# EAGLE library part LAIRD-BL600 (library GClueBT)
Laird BL600 Bluetooth Bluetooth 4.0 low energy radio Radio Transmit power: +4 dBm Receiver sensitivity: -91 dBm Typical line-of-sight range: Current Consumption System Idle: 3.5uA Transmit: 10.5mA@0dBm Certifications Japan: MIC Japan BL600-SA 204-320049 Ceramic BL600-SC 204-320050 IPEX MHF4 BL600-ST 204-320048 Trace Pad Reference Hardware Integration Guide <http://www.lairdtech.com/brandworld/library/BL600%20Hardware%20Integration%20Guide.pdf>
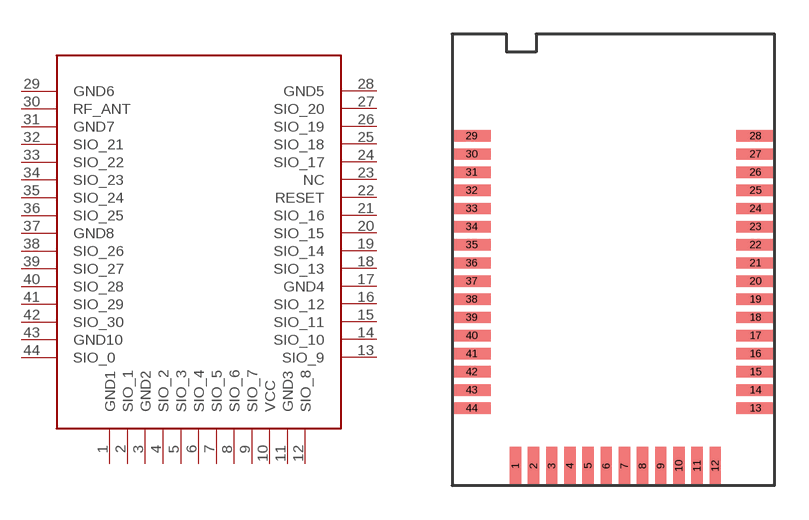
[diagram p4: symbol with the pads of LAIRD-BL600; footprint LAIRD-BL600]

Designator prefix BL600

## LAIRD-BL600  [LAIRD-BL600]
1  GND1
2  SIO_1
3  GND2
4  SIO_2
5  SIO_3
6  SIO_4
7  SIO_5
8  SIO_6
9  SIO_7
10  VCC
11  GND3
12  SIO_8
13  SIO_9
14  SIO_10
15  SIO_11
16  SIO_12
17  GND4
18  SIO_13
19  SIO_14
20  SIO_15
21  SIO_16
22  RESET
23  NC
24  SIO_17
25  SIO_18
26  SIO_19
27  SIO_20
28  GND5
29  GND6
30  RF_ANT
31  GND7
32  SIO_21
33  SIO_22
34  SIO_23
35  SIO_24
36  SIO_25
37  GND8
38  SIO_26
39  SIO_27
40  SIO_28
41  SIO_29
42  SIO_30
43  GND10
44  SIO_0

## Footprint LAIRD-BL600 (pad centres in mm)
Laird BL600 Bluetooth Bluetooth 4.0 low energy radio Radio Transmit power: +4 dBm Receiver sensitivity: -91 dBm Typical line-of-sight range: Current Consumption System Idle: 3.5uA Transmit: 10.5mA@0dBm Certifications Japan: MIC Japan BL600-SA 204-320049 Ceramic BL600-SC 204-320050 IPEX MHF4 BL600-ST 204-320048 Trace Pad Reference Hardware Integration Guide <http://www.lairdtech.com/brandworld/library/BL600%20Hardware%20Integration%20Guide.pdf>
smd 0.5 x 1.7: 1 -4.21,-9.34; 2 -3.41,-9.34; 3 -2.61,-9.34; 4 -1.81,-9.34; 5 -1.01,-9.34; 6 -0.21,-9.34; 7 0.59,-9.34; 8 1.39,-9.34; 9 2.19,-9.34; 10 2.99,-9.34; 11 3.79,-9.34; 12 4.59,-9.34
smd 1.7 x 0.5: 13 6.36,-6.79; 14 6.36,-5.99; 15 6.36,-5.19; 16 6.36,-4.39; 17 6.36,-3.59; 18 6.36,-2.79; 19 6.36,-1.99; 20 6.36,-1.19; 21 6.36,-0.39; 22 6.36,0.41; 23 6.36,1.21; 24 6.36,2.01; 25 6.36,2.81; 26 6.36,3.61; 27 6.36,4.41; 28 6.36,5.21; 29 -6.14,5.21; 30 -6.14,4.41; 31 -6.14,3.61; 32 -6.14,2.81; 33 -6.14,2.01; 34 -6.14,1.21; 35 -6.14,0.41; 36 -6.14,-0.39; 37 -6.14,-1.19; 38 -6.14,-1.99; 39 -6.14,-2.79; 40 -6.14,-3.59; 41 -6.14,-4.39; 42 -6.14,-5.19; 43 -6.14,-5.99; 44 -6.14,-6.79